# EAGLE library part OLED-12864 (library moudle)
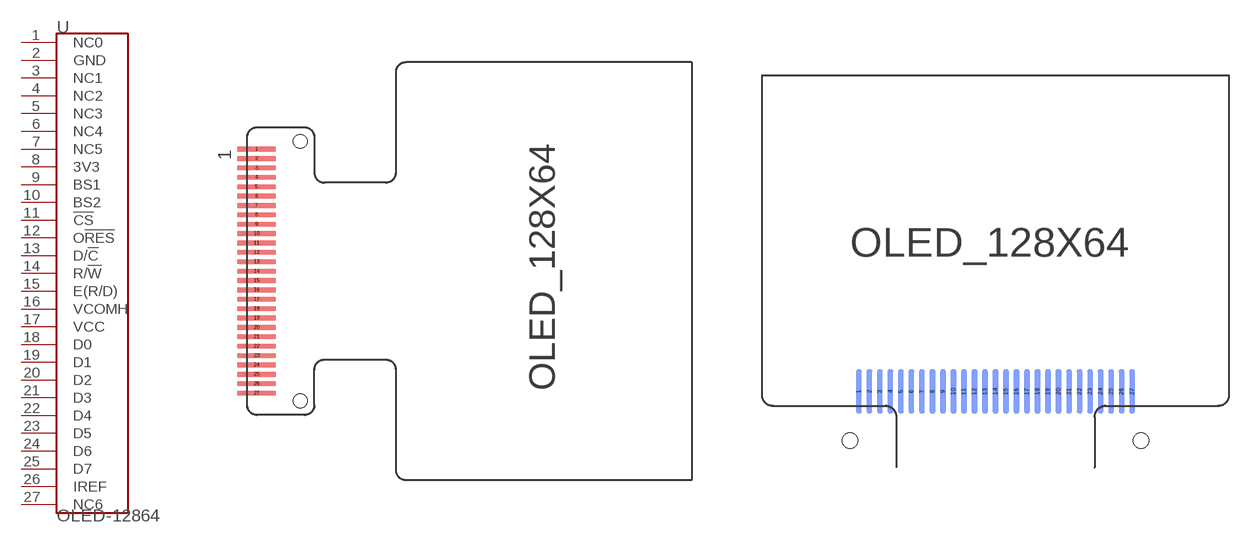
[diagram p12: symbol with the pads of 27P-0.6; footprints 27P-0.6, 27P-0.6-UP-DOWN]

Designator prefix U

## OLED-12864'F'  [27P-0.6]
1  NC0
2  GND
3  NC1
4  NC2
5  NC3
6  NC4
7  NC5
8  3V3
9  BS1
10  BS2
11  !CS
12  O!RES
13  D/!C
14  R/!W
15  E(R/D)
16  VCOMH
17  VCC
18  D0
19  D1
20  D2
21  D3
22  D4
23  D5
24  D6
25  D7
26  IREF
27  NC6

## OLED-12864'U'  [27P-0.6-UP-DOWN]
Pads as for 27P-0.6

## OLED-12864-BEND  [27P-0.6-BEND]
Pads as for 27P-0.6

## Footprint 27P-0.6 (pad centres in mm)
smd 2.5 x 0.35: 1 0.6,7.8; 2 0.6,7.2; 3 0.6,6.6; 4 0.6,6; 5 0.6,5.4; 6 0.6,4.8; 7 0.6,4.2; 8 0.6,3.6; 9 0.6,3; 10 0.6,2.4; 11 0.6,1.8; 12 0.6,1.2; 13 0.6,0.6; 14 0.6,0; 15 0.6,-0.6; 16 0.6,-1.2; 17 0.6,-1.8; 18 0.6,-2.4; 19 0.6,-3; 20 0.6,-3.6; 21 0.6,-4.2; 22 0.6,-4.8; 23 0.6,-5.4; 24 0.6,-6; 25 0.6,-6.6; 26 0.6,-7.2; 27 0.6,-7.8
hole 0.889 at 3.4,8.3
hole 0.889 at 3.4,-8.3

## Footprint 27P-0.6-UP-DOWN (pad centres in mm)
smd 0.35 x 2.5 bottom: 1 -7.8,-6.188; 2 -7.2,-6.188; 3 -6.6,-6.188; 4 -6,-6.188; 5 -5.4,-6.188; 6 -4.8,-6.188; 7 -4.2,-6.188; 8 -3.6,-6.188; 9 -3,-6.188; 10 -2.4,-6.188; 11 -1.8,-6.188; 12 -1.2,-6.188; 13 -0.6,-6.188; 14 0,-6.188; 15 0.6,-6.188; 16 1.2,-6.188; 17 1.8,-6.188; 18 2.4,-6.188; 19 3,-6.188; 20 3.6,-6.188; 21 4.2,-6.188; 22 4.8,-6.188; 23 5.4,-6.188; 24 6,-6.188; 25 6.6,-6.188; 26 7.2,-6.188; 27 7.8,-6.188
hole 0.889 at -8.3,-8.988
hole 0.889 at 8.3,-8.988

## Footprint 27P-0.6-BEND (pad centres in mm)
smd 0.35 x 2.5: 1 -7.805,5.624; 2 -7.205,5.624; 3 -6.605,5.624; 4 -6.005,5.624; 5 -5.405,5.624; 6 -4.805,5.624; 7 -4.205,5.624; 8 -3.605,5.624; 9 -3.005,5.624; 10 -2.405,5.624; 11 -1.805,5.624; 12 -1.205,5.624; 13 -0.605,5.624; 14 -0.005,5.624; 15 0.595,5.624; 16 1.195,5.624; 17 1.795,5.624; 18 2.395,5.624; 19 2.995,5.624; 20 3.595,5.624; 21 4.195,5.624; 22 4.795,5.624; 23 5.395,5.624; 24 5.995,5.624; 25 6.595,5.624; 26 7.195,5.624; 27 7.795,5.624